# Altium footprint library My_AD_Footprint.PcbLib: 3 footprints
Each footprint in its own frame and in the unit in brackets; x right, y up, seen from the top. Pads: shape width x height; smd on the part's side, far side on the other; paste and mask are expansions set on the pad; w line width, h text height; cw(c..) or ccw(c..) is an arc to the next point about the centre after c.
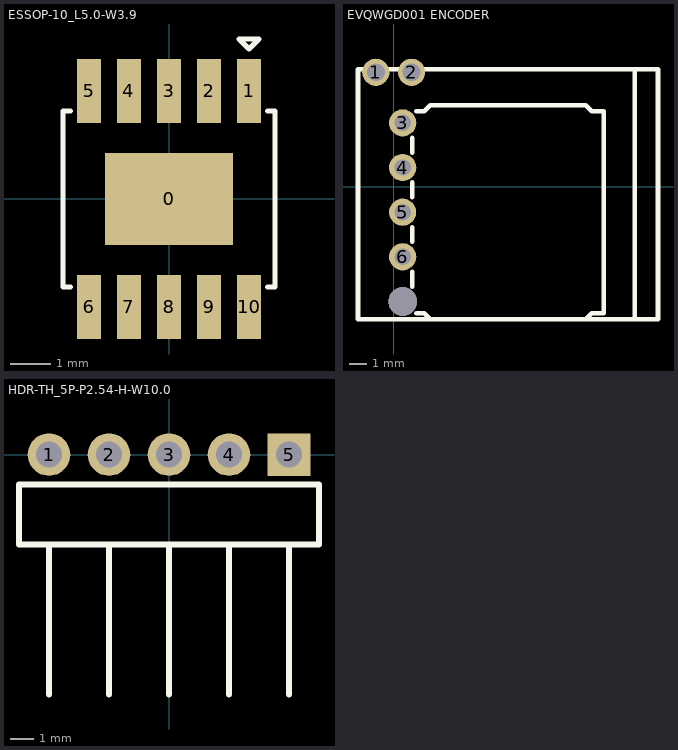
[diagram p0: the footprints below, top view; thin cyan lines are the x and y axes]

## ESSOP-10_L5.0-W3.9 [mm]
pads (11):
  rect 3.2x2.3 smd: 0(0,0)
  rect 0.6x1.6 smd: 1(2,2.7) 2(1,2.7) 3(0,2.7) 4(-1,2.7) 5(-2,2.7) 6(-2,-2.7) 7(-1,-2.7) 8(0,-2.7) 9(1,-2.7) 10(2,-2.7)
Top Overlay:
  lines w0.127: -2.468,-2.2 -2.65,-2.2 -2.65,2.2 -2.468,2.2 ; 2.468,-2.2 2.65,-2.2 2.65,2.2 2.468,2.2 ; 1.75,4 2.25,4 2,3.75 1.75,4

## EVQWGD001 ENCODER [mil]
pads (7):
  round 60 hole 39.37: 1(-39.37,252.66) 2(39.37,252.66)
  round 60 hole 36: 3(19.69,141.05) 4(19.69,42.62) 5(19.69,-55.81) 6(19.69,-154.23)
  round 62.99 hole 62.99 unplated: ""(19.69,-252.66)
Top Overlay:
  lines w10: 41.34,-219.77 41.34,-187.11 ; 41.34,-121.35 41.34,-88.68 ; 41.34,-22.92 41.34,9.74 ; 41.34,75.5 41.34,108.17 ; 49.61,-278.24 67.18,-278.24 80.71,-291.72 423.23,-291.72 436.76,-278.24 462.6,-278.24 462.6,166.64 436.76,166.64 423.23,180.12 80.71,180.12 67.18,166.64 49.61,166.64 ; 531.5,-292.02 531.5,259.16 ; -78.74,-292.02 582.68,-292.02 582.68,259.16 -78.74,259.16 -78.74,-292.02
3D body "Encoder.step": height 531.42, standoff -128.03, extent -84.37,-292.34 569.17,252.94

## HDR-TH_5P-P2.54-H-W10.0 [mm]
pads (5):
  round 1.8 hole 1.1: 1(-5.08,0) 2(-2.54,0) 3(0,0) 4(2.54,0)
  rect 1.8x1.8 hole 1.1: 5(5.08,0)
Top Overlay:
  lines w0.254: -5.08,-10.16 -5.08,-3.81 ; -2.54,-10.16 -2.54,-3.81 ; 0,-10.16 0,-3.81 ; 2.54,-10.16 2.54,-3.81 ; 5.08,-10.16 5.08,-3.81 ; -6.35,-3.81 -6.35,-1.27 6.35,-1.27 6.35,-3.81 -6.35,-3.81